# Altium footprint library MyPcbLib.PcbLib: 19 footprints (part 2 of 2)
Each footprint in its own frame and in the unit in brackets; x right, y up, seen from the top. Pads: shape width x height; smd on the part's side, far side on the other; paste and mask are expansions set on the pad; w line width, h text height; cw(c..) or ccw(c..) is an arc to the next point about the centre after c.
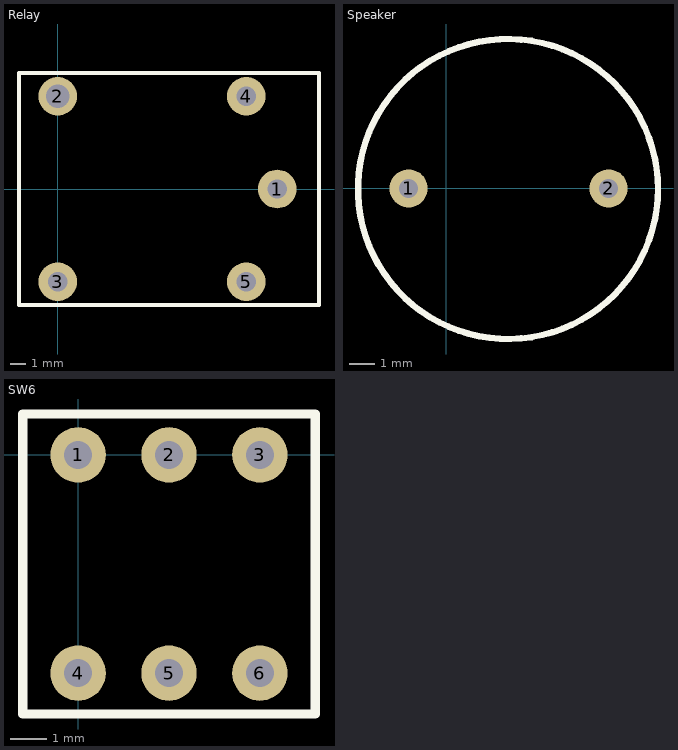
[diagram p1: the footprints below, top view; thin cyan lines are the x and y axes]

## Relay [mm] "HLS8L-DC5V-S-C"
height 15
pads (5):
  round 2.5 hole 1.25: 1(14.2,0) 3(0,-6) 4(12.2,6) 5(12.2,-6)
  round 2.5 hole 1.5: 2(0,6)
Top Overlay:
  lines w0.254: -2.5,-7.5 16.9,-7.5 16.9,7.5 -2.5,7.5 -2.5,-7.5

## Speaker [mil]
height 314.96
pads (2):
  round 60 hole 30: 1(-59.06,0) 2(255.91,0)
Top Overlay:
  circle w10: c97.44,-0.98 r236.22

## SW6 [mil]
height 393.7
pads (6):
  round 60 hole 30: 1(0,0) 2(98.43,0) 3(196.85,0) 4(0,-236.22) 5(98.43,-236.22) 6(196.85,-236.22)
Top Overlay:
  lines w10: -60.04,-280.51 -60.04,44.29 256.89,44.29 256.89,-280.51 -60.04,-280.51